# Altium footprint library U-jumper.PcbLib: 1 footprints
Each footprint in its own frame and in the unit in brackets; x right, y up, seen from the top. Pads: shape width x height; smd on the part's side, far side on the other; paste and mask are expansions set on the pad; w line width, h text height; cw(c..) or ccw(c..) is an arc to the next point about the centre after c.
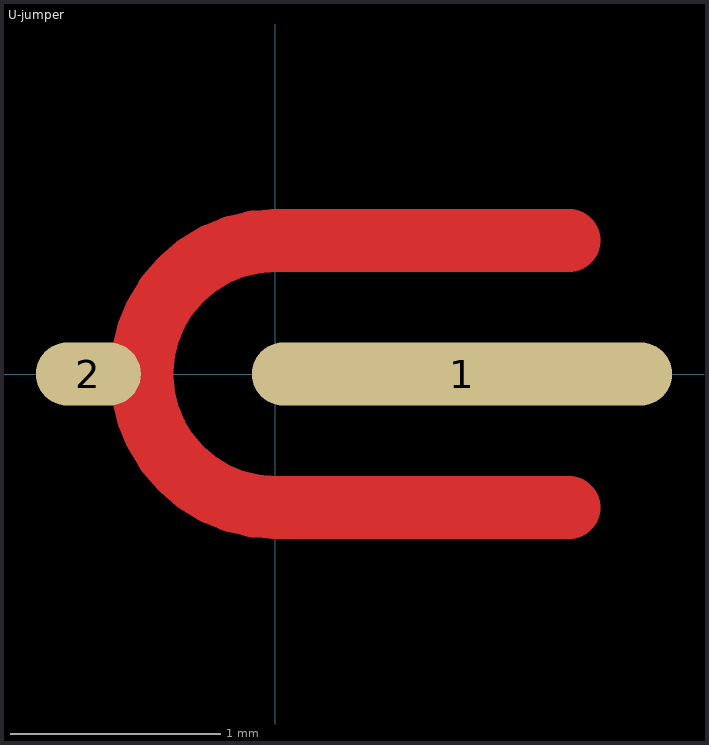
[diagram p0: the footprint, top view; thin cyan lines are the x and y axes]

## U-jumper [mm]
pads (2):
  oval 2x0.3 smd paste-1 mask-1: 1(0.889,0)
  oval 0.5x0.3 smd paste-1 mask-1: 2(-0.889,0)
Top Layer:
  lines w0.3: 1.397,-0.635 0,-0.635 cw(c0,0) -0.635,0 cw(c0,0) 0,0.635 1.397,0.635
Top Solder:
  region: -0.897,0 -0.866,0.232 -0.777,0.448 -0.634,0.634 -0.448,0.777 -0.232,0.866 0,0.897 0,0.889 1.397,0.894 1.496,0.874 1.58,0.818 1.636,0.734 1.656,0.635 1.651,0.635 1.656,-0.635 1.636,-0.734 1.58,-0.818 1.496,-0.874 1.397,-0.894 1.397,-0.889 0,-0.897 -0.232,-0.866 -0.448,-0.777 -0.634,-0.634 -0.777,-0.448 -0.866,-0.232